# Altium footprint library UC384x.PcbLib: 3 footprints
Each footprint in its own frame and in the unit in brackets; x right, y up, seen from the top. Pads: shape width x height; smd on the part's side, far side on the other; paste and mask are expansions set on the pad; w line width, h text height; cw(c..) or ccw(c..) is an arc to the next point about the centre after c.
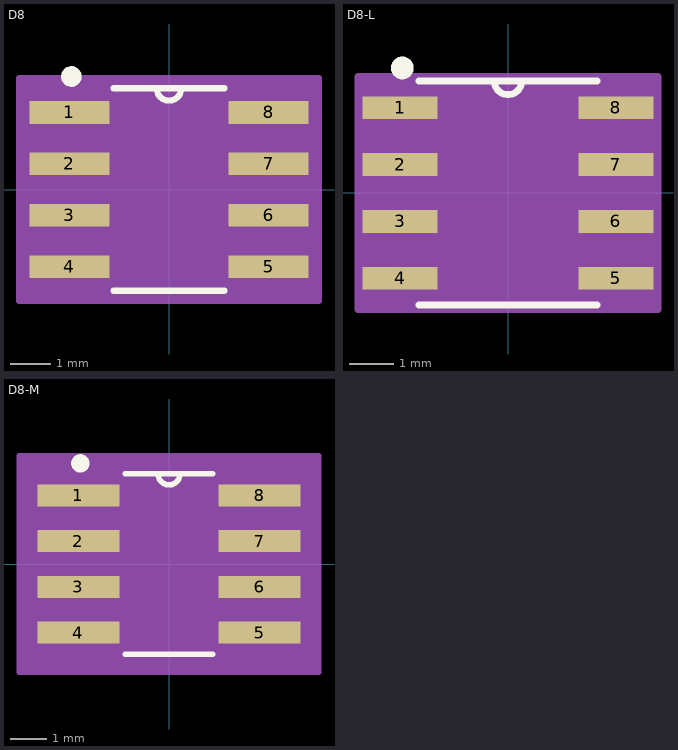
[diagram p0: the footprints below, top view; thin cyan lines are the x and y axes]

## D8 [mil]
pads (8):
  rect 78x22 smd: 1(-97,75) 2(-97,25) 3(-97,-25) 4(-97,-75) 5(97,-75) 6(97,-25) 7(97,25) 8(97,75)
Top Overlay:
  circle w10: c-95,110 r5
  lines w6: -54.08,-98.5 54.08,-98.5 ; -54.08,98.5 54.08,98.5 ; -12,98.5 ccw(c0,98.5) 12,98.5
Mechanical 13:
  lines w0: -12,98.5 ccw(c0,98.5) 12,98.5
Mechanical 15:
  region: 146,-108.5 -146,-108.5 -146,108.5 146,108.5
  lines w6: -146,-108.5 146,-108.5 146,108.5 -146,108.5 -146,-108.5
3D body "D8.stp": height 69.1, standoff 0, extent -122,-98.5 122,98.5

## D8-L [mil]
pads (8):
  rect 66x20 smd: 1(-95,75) 2(-95,25) 3(-95,-25) 4(-95,-75) 5(95,-75) 6(95,-25) 7(95,25) 8(95,75)
Top Overlay:
  circle w10: c-93,110 r5
  lines w6: -78.5,-98.5 78.5,-98.5 ; -78.5,98.5 78.5,98.5 ; -12,98.5 ccw(c0,98.5) 12,98.5
Mechanical 13:
  lines w0: -12,98.5 ccw(c0,98.5) 12,98.5
Mechanical 15:
  region: 132,-102.5 -132,-102.5 -132,102.5 132,102.5
  lines w6: -132,-102.5 -132,102.5 132,102.5 132,-102.5 -132,-102.5
3D body "D8-L.stp": height 69.1, standoff 0, extent -122,-98.5 122,98.5

## D8-M [mil]
pads (8):
  rect 90x24 smd: 1(-99,75) 2(-99,25) 3(-99,-25) 4(-99,-75) 5(99,-75) 6(99,-25) 7(99,25) 8(99,75)
Top Overlay:
  circle w10: c-97,110 r5
  lines w6: -47.73,-98.5 47.73,-98.5 ; -47.73,98.5 47.73,98.5 ; -12,98.5 ccw(c0,98.5) 12,98.5
Mechanical 13:
  lines w0: -12,98.5 ccw(c0,98.5) 12,98.5
Mechanical 15:
  region: 164,-118.5 -164,-118.5 -164,118.5 164,118.5
  lines w6: -164,-118.5 164,-118.5 164,118.5 -164,118.5 -164,-118.5
3D body "D8-M.stp": height 69.1, standoff 0, extent -122,-98.5 122,98.5